# EAGLE library part SVR (library RalimTek)
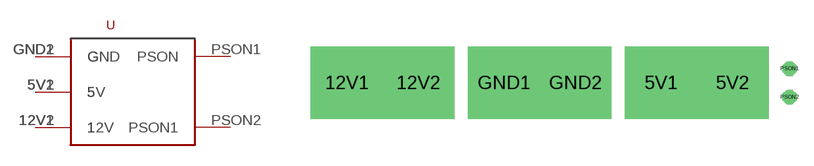
[diagram p19: symbol with the pads of SVR_PSU; footprint SVR_PSU]

Designator prefix -

## SVR  [SVR_PSU]
5V1  5V
5V2  5
12V1  12V
12V2  1
GND1  GND
GND2  G
PSON1  PSON
PSON2  PSON1

## Footprint SVR_PSU (pad centres in mm)
drill 2.2 pad 6.452 square: 5V1 32.385,6.985; 5V2 38.735,6.985; 12V1 4.445,6.985; 12V2 10.795,6.985; GND1 18.415,6.985; GND2 24.765,6.985
drill 0.7 pad 1.27 octagon: PSON1 43.815,8.255; PSON2 43.815,5.715